# EAGLE library part 6N3-SIMPLE (library XXXXXXtube supl)
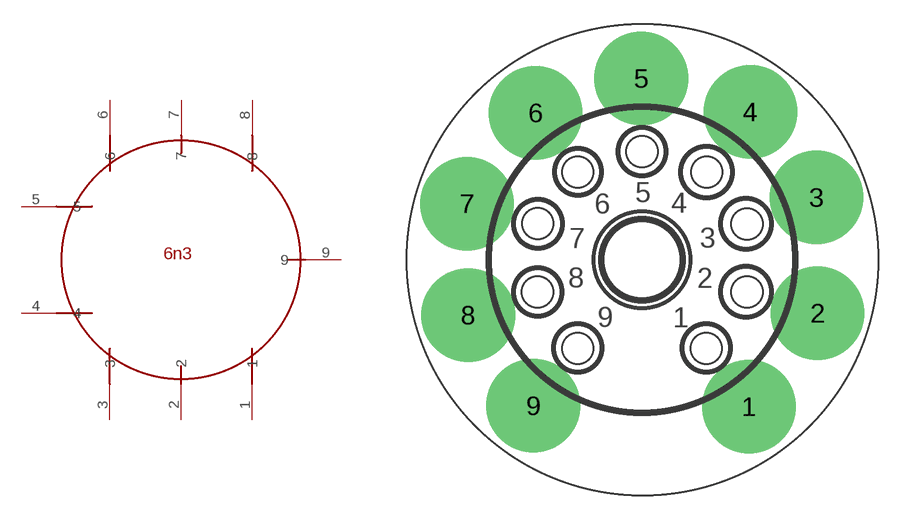
[diagram p2: symbol with the pads of NOVAL; footprint NOVAL]

Designator prefix -

## 6N3-SIMPLE  [NOVAL]
1  1
2  2
3  3
4  4
5  5
6  6
7  7
8  8
9  9

## Footprint NOVAL (pad centres in mm)
drill 2.2 pad 5.842: 1 6.682,-9.176; 2 10.961,-3.335; 3 10.884,3.896; 4 6.763,9.239; 5 -0.047,11.334; 6 -6.646,9.182; 7 -10.936,3.508; 8 -10.847,-3.457; 9 -6.788,-9.12